# Altium footprint library PHE426DJ4120JR05.PcbLib: 1 footprints
Each footprint in its own frame and in the unit in brackets; x right, y up, seen from the top. Pads: shape width x height; smd on the part's side, far side on the other; paste and mask are expansions set on the pad; w line width, h text height; cw(c..) or ccw(c..) is an arc to the next point about the centre after c.
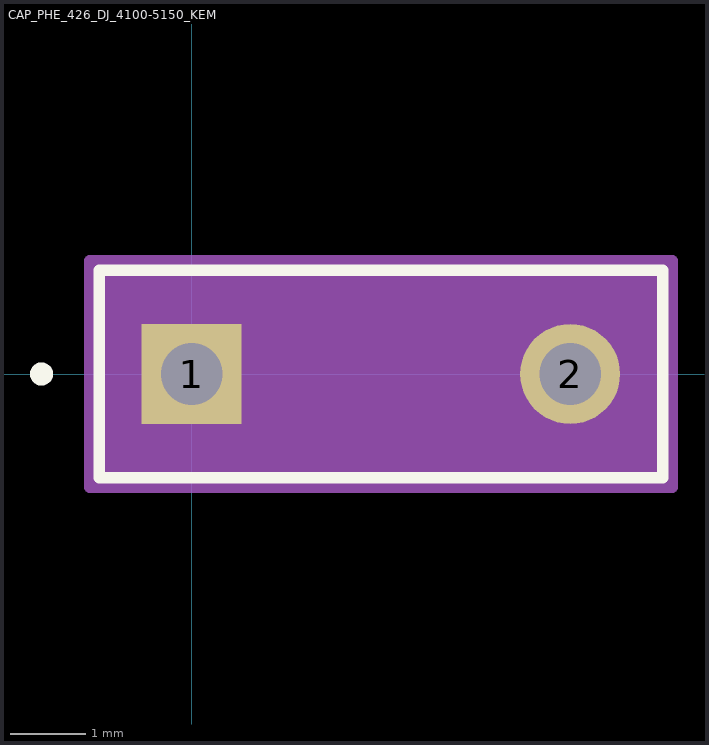
[diagram p0: the footprint, top view; thin cyan lines are the x and y axes]

## CAP_PHE_426_DJ_4100-5150_KEM [mil]
pads (2):
  rect 52x52 / inner round 60 / far side rect 52x52 hole 32 paste-26 mask+0: 1(0,0)
  round 52 / inner round 60 / far side round 52 hole 32 paste-26 mask+0: 2(196.85,0)
Top Overlay:
  circle w6: c-78.07,0 r3
  lines w6: -48.07,-54 244.93,-54 244.93,54 -48.07,54 -48.07,-54
Mechanical 13:
  circle w0: c-23.07,0 r3
  lines w1: -43.07,-49 239.93,-49 239.93,49 -43.07,49 -43.07,-49
Mechanical 15:
  region: 249.93,-59 -53.07,-59 -53.07,59 249.93,59
  lines w6: -53.07,-59 -53.07,59 249.93,59 249.93,-59 -53.07,-59
3D body "CAP_PHE_426_DJ_4100-5150_KEM.step": height 255.98, standoff -165.98, extent -54.06,-49.02 228.94,49.02